# Altium schematic symbol library IND_XAL4020-102ME.SchLib: 1 symbol
Pins are listed as number, name and electrical type; pins without a type are passive.

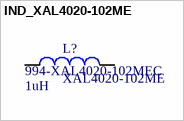
[diagram p0: symbol IND_XAL4020-102ME]

## IND_XAL4020-102ME
designator L?, comment XAL4020-102ME  Inductance: 1uH  Supplier Part Number 1: 994-XAL4020-102MEC
1uH 20% 9.6A 14.60mOhms AEC-Q200; Manufacturer: Coilcraft; Manufacturer Part Number: XAL4020-102MEC; Core Material: Composite; Self Resonant Frequency: 79MHz; Shielding: Shielded; DC Resistance (DCR): 14.6mR; Test Frequency: 100kHz; Supplier 1: Mouser; Stock 1: 13905; Pricing 1: 1=1.8, 10=1.8, 50=1.8, 100=1.44, 500=0.944, 1000=0.869, 2000=0.809, 10000=0.809 (USD); Min Operating Temperature: -40°C; Max Operating Temperature: 125°C; Packaging: Tape and Reel; Package Quantity: 1000; Tolerance: 20%; Max DC Current: 9.6A; Termination: SMD/SMT; Length: 4.3mm; Height: 2.1mm; Width: 4.3mm; Lead Free: Contains Lead
footprint XAL4020-102ME
pins: 1, 2